# Altium schematic symbol library TI Power Management DC-DC Controller (External Switch).SchLib: 349 symbols (part 21 of 26)
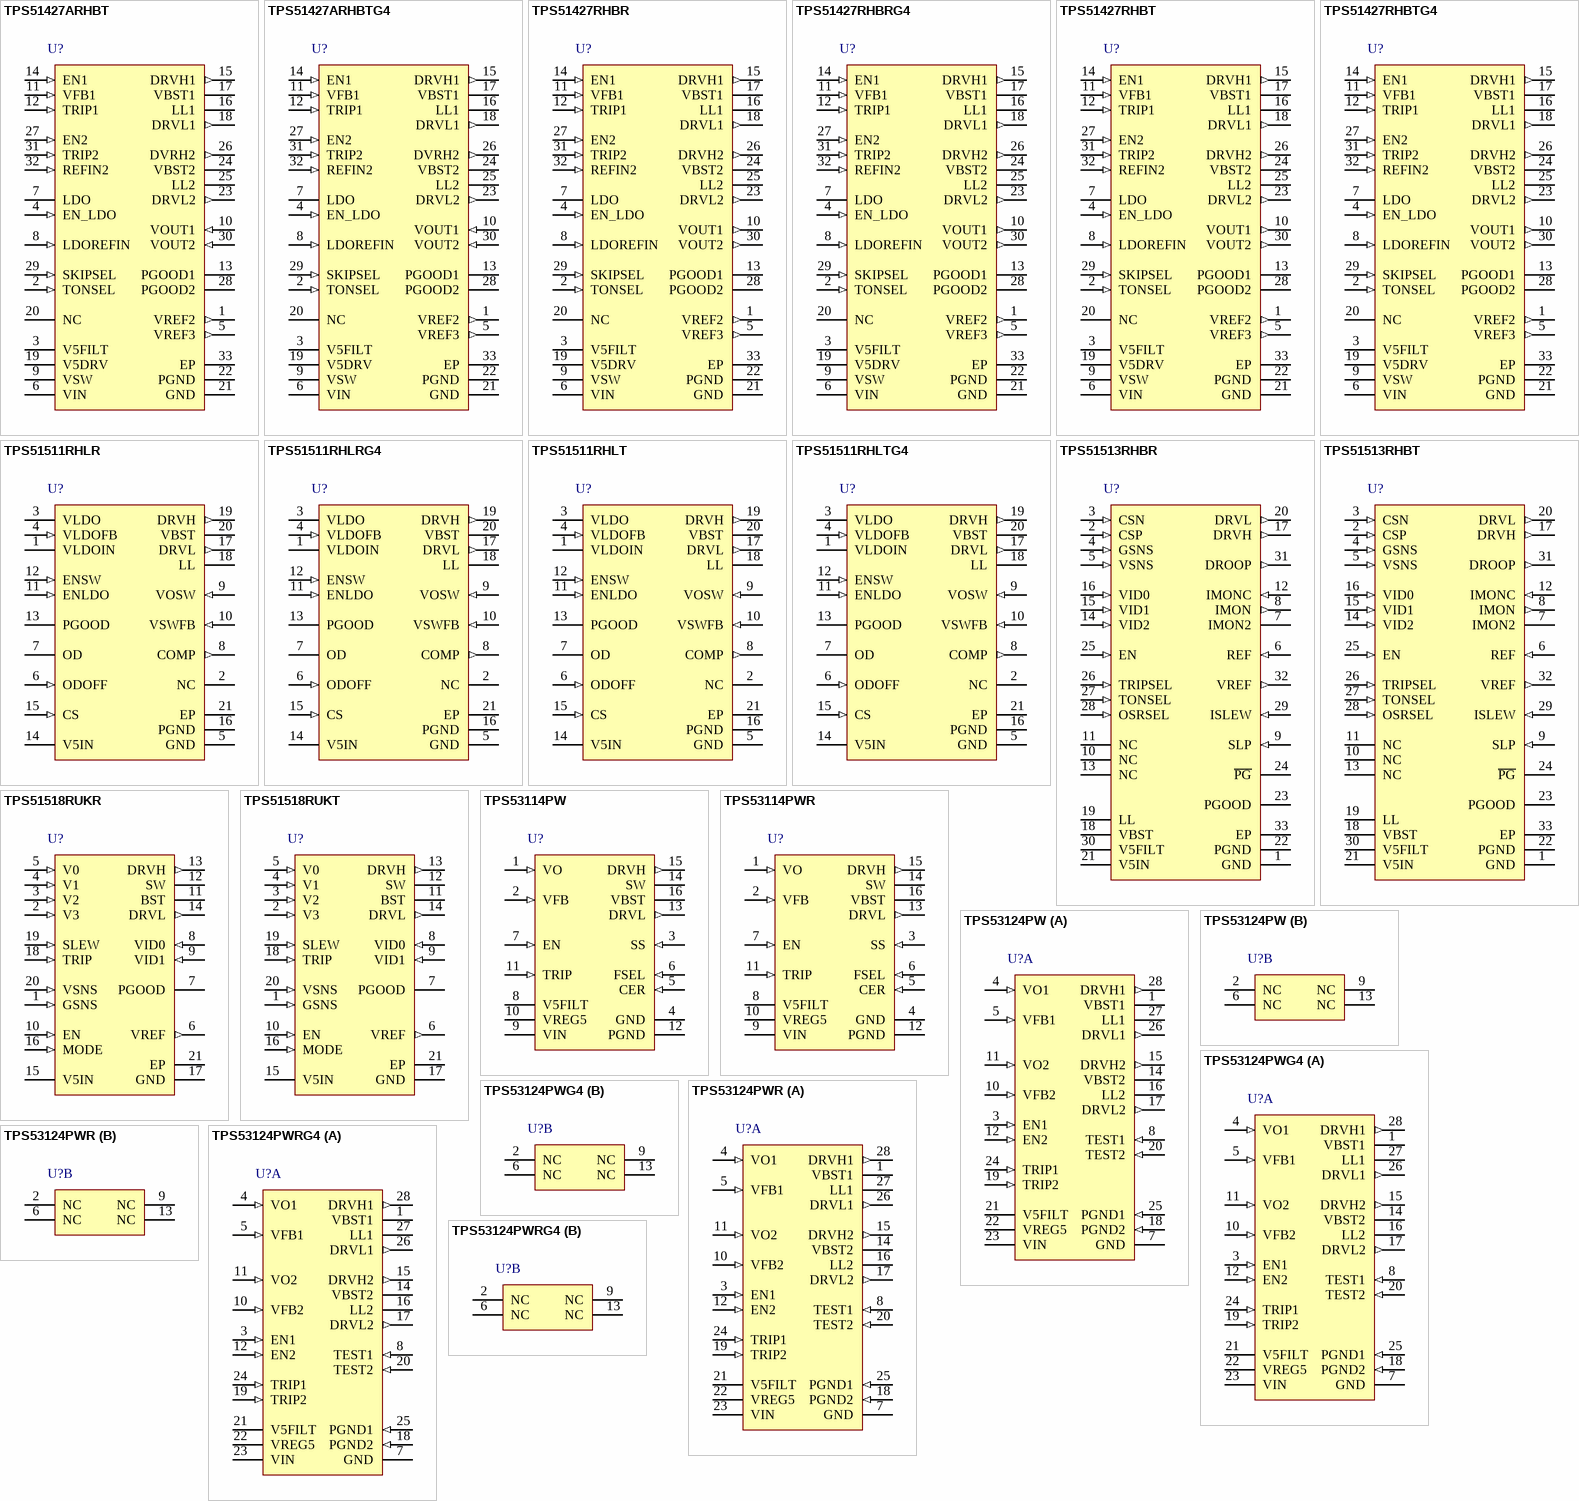
[diagram p34: symbols TPS51427ARHBT to TPS53124PWRG4]

## TPS51511RHLT
designator U?
Synchronous Switcher Controller with 2 A LDO for GPU Power, 86 % Duty Cycle, 3 to 28 V, -40 to 85 degC, 20-pin QFN (RHL), Green (RoHS & no Sb/Br); Manufacturer: Texas Instruments; PartNumber: TPS51511RHLT; Duty Cycle(Max)(%): 86; Iout(Max)(A): 10; Regulated Outputs(#): 1; SubFamily: Multiple-Output Switching Controller; Switching Frequency(Max)(kHz): 350; Synchronous Rectification: TRUE; Topology: Buck, D-CAP Mode"; Vin(Max)(V): 28; Vin(Min)(V): 3; Vout(Max)(V): 3.3; Vout(Min)(V): 0.75; DatasheetVersion: SLVS735A; PackageVersion: revJ, Dec-2011; PackageReference: RHL20-3050X2050TP; PackageDescription: 20-Leads Plastic Quad Flatpack No-Lead, 4.5 x 3.5 x 0.9 mm Body, 0.5 mm Pitch, Exposed Pad; Supplier 1: Digi-Key; Supplier Part Number 1: 296-21643-2-ND; Eco-Plan: Green (RoHS & no Sb/Br); Mounting Technology: Surface Mount; ComponentLink1Description: Datasheet; ComponentLink1URL: http://www.ti.com/general/docs/lit/getliterature.tsp?genericPartNumber=TPS51511&fileType=pdf; ComponentLink2Description: Package Specification; ComponentLink2URL: http://www.ti.com/litv/pdf/mpqf155i
footprint RHL20-3050X2050TP (QFN, 20-Leads, Body 4.5x3.5mm, Pitch 0.5mm, Thermal Pad 3.05x2.05mm, TI Recommended)
pins: 1 VLDOIN (power) "Input terminal of the LDO.", 2 NC "Pin not used. No internal connection.", 3 VLDO (power) "Output terminal of the LDO. When LDO is turned off, the output capacitor is discharged by an internal FET.", 4 VLDOFB (in) "Feedback pin of the LDO. A voltage divider sets the LDO output voltage.", 5 GND (power) "Signal ground. Connect to negative terminal of the LDO output capacitor.", 6 ODOFF (in) "A comparator input. When this pin is tied to VLDOFB, OD acts as a PGOOD signal for the LDO. When connected to external logic, OD acts like a switch. See Table 1 for detailed information.", 7 OD (oc) "The output of the multifuntional open-drain switch.", 8 COMP (out) "Output of the transconductance amplifier for phase compensation in current mode. Connect to V5IN to disable Gm amplifier and enable D-CAP mode.", 9 VOSW (in) "Switcher output voltage monitor. Input for on-time one-shot timer and advanced PGOOD masking comparator.", 10 VSWFB (in) "Feedback pin of the switcher. A voltage divider connected to this pin sets the switcher output voltage. A resistor connected between this pin and OD pin can be inserted in parallel with the low-side resistor of the voltage (See Datasheet)", 11 ENLDO (in) "LDO-enable signal input.", 12 ENSW (in) "Switcher-enable signal input.", 13 PGOOD (oc) "Power-good signal open-drain output. Pulled low when VSWFB voltage falls outside the target window comparator. The upper side of the window comparator will be masked if the VOSW volttage is lower than 1.36 V (typ.). Refer to (See Datasheet)", 14 V5IN (power) "5V Power supply input. This 5 V supplies internal control circuitry, LDO pass FET gate drive, VDRVH and VDRVL gate drivers.", 15 CS (in) "Current-sense comparator input (-) for resistor current-sense mode. If connected to 5VIN through a voltage-setting resistor, constant current sinks through this pin to set the OCL point for the RDS(ON) current-sense mode.", 16 PGND (power) "Ground for bottom MOSFET gate driver. Also current-sense comparator input (+).", 17 DRVL (out) "Rectifying (bottom) MOSFET gate-drive output.", 18 LL (power) "Switching (top) MOSFET gate driver return. Current sense comparator input (-) for RDS(ON) current-sense mode.", 19 DRVH (out) "Switching (top) MOSFET gate drive output", 20 VBST (power) "Switching (top) MOSFET driver bootstrap voltage input. Internally connected to V5IN through an PN diode.", 21 EP (power) "Exposed Thermal Pad"

## TPS51511RHLTG4
designator U?
Synchronous Switcher Controller with 2 A LDO for GPU Power, 86 % Duty Cycle, 3 to 28 V, -40 to 85 degC, 20-pin QFN (RHL), Green (RoHS & no Sb/Br); Manufacturer: Texas Instruments; PartNumber: TPS51511RHLTG4; Duty Cycle(Max)(%): 86; Iout(Max)(A): 10; Regulated Outputs(#): 1; SubFamily: Multiple-Output Switching Controller; Switching Frequency(Max)(kHz): 350; Synchronous Rectification: TRUE; Topology: Buck, D-CAP Mode"; Vin(Max)(V): 28; Vin(Min)(V): 3; Vout(Max)(V): 3.3; Vout(Min)(V): 0.75; DatasheetVersion: SLVS735A; PackageVersion: revJ, Dec-2011; PackageReference: RHL20-3050X2050TP; PackageDescription: 20-Leads Plastic Quad Flatpack No-Lead, 4.5 x 3.5 x 0.9 mm Body, 0.5 mm Pitch, Exposed Pad; Supplier 1: Digi-Key; Supplier Part Number 1: TPS51511RHLTG4-ND; Eco-Plan: Green (RoHS & no Sb/Br); Mounting Technology: Surface Mount; ComponentLink1Description: Datasheet; ComponentLink1URL: http://www.ti.com/general/docs/lit/getliterature.tsp?genericPartNumber=TPS51511&fileType=pdf; ComponentLink2Description: Package Specification; ComponentLink2URL: http://www.ti.com/litv/pdf/mpqf155i
footprint RHL20-3050X2050TP (QFN, 20-Leads, Body 4.5x3.5mm, Pitch 0.5mm, Thermal Pad 3.05x2.05mm, TI Recommended)
pins: 1 VLDOIN (power) "Input terminal of the LDO.", 2 NC "Pin not used. No internal connection.", 3 VLDO (power) "Output terminal of the LDO. When LDO is turned off, the output capacitor is discharged by an internal FET.", 4 VLDOFB (in) "Feedback pin of the LDO. A voltage divider sets the LDO output voltage.", 5 GND (power) "Signal ground. Connect to negative terminal of the LDO output capacitor.", 6 ODOFF (in) "A comparator input. When this pin is tied to VLDOFB, OD acts as a PGOOD signal for the LDO. When connected to external logic, OD acts like a switch. See Table 1 for detailed information.", 7 OD (oc) "The output of the multifuntional open-drain switch.", 8 COMP (out) "Output of the transconductance amplifier for phase compensation in current mode. Connect to V5IN to disable Gm amplifier and enable D-CAP mode.", 9 VOSW (in) "Switcher output voltage monitor. Input for on-time one-shot timer and advanced PGOOD masking comparator.", 10 VSWFB (in) "Feedback pin of the switcher. A voltage divider connected to this pin sets the switcher output voltage. A resistor connected between this pin and OD pin can be inserted in parallel with the low-side resistor of the voltage (See Datasheet)", 11 ENLDO (in) "LDO-enable signal input.", 12 ENSW (in) "Switcher-enable signal input.", 13 PGOOD (oc) "Power-good signal open-drain output. Pulled low when VSWFB voltage falls outside the target window comparator. The upper side of the window comparator will be masked if the VOSW volttage is lower than 1.36 V (typ.). Refer to (See Datasheet)", 14 V5IN (power) "5V Power supply input. This 5 V supplies internal control circuitry, LDO pass FET gate drive, VDRVH and VDRVL gate drivers.", 15 CS (in) "Current-sense comparator input (-) for resistor current-sense mode. If connected to 5VIN through a voltage-setting resistor, constant current sinks through this pin to set the OCL point for the RDS(ON) current-sense mode.", 16 PGND (power) "Ground for bottom MOSFET gate driver. Also current-sense comparator input (+).", 17 DRVL (out) "Rectifying (bottom) MOSFET gate-drive output.", 18 LL (power) "Switching (top) MOSFET gate driver return. Current sense comparator input (-) for RDS(ON) current-sense mode.", 19 DRVH (out) "Switching (top) MOSFET gate drive output", 20 VBST (power) "Switching (top) MOSFET driver bootstrap voltage input. Internally connected to V5IN through an PN diode.", 21 EP (power) "Exposed Thermal Pad"

## TPS51513RHBR
designator U?
3 to 28 V Input Synchronous Step Down Controller with D-CAP+™ Mode and Integrated Gate Driver, 90 % Duty Cycle, 3 to 28 V, -10 to 100 degC, 32-pin QFN (RHB), Green (RoHS & no Sb/Br); Manufacturer: Texas Instruments; PartNumber: TPS51513RHBR; Duty Cycle(Max)(%): 90; Iout(Max)(A): 25; Regulated Outputs(#): 1; SubFamily: Step-Down Controller; Switching Frequency(Max)(kHz): 500; Synchronous Rectification: true; Topology: Buck,D-CAP+™ Mode; Vin(Max)(V): 28; Vin(Min)(V): 3; Vout(Max)(V): 1.05; Vout(Min)(V): 0.7; DatasheetVersion: SLUS956A; PackageVersion: revD, Jun-2011; PackageReference: RHB32-3450X3450TP; PackageDescription: 32-Pin Plastic Quad Flat No-Lead, 5 x 5 mm Body, 0.5 mm Pitch, 3.45 x 3.45 mm Exposed Pad; Supplier 1: Digi-Key; Supplier Part Number 1: TPS51513RHBR-ND; Eco-Plan: Green (RoHS & no Sb/Br); Mounting Technology: Surface Mount; Code_JEDEC: MO-220; ComponentLink1Description: Datasheet; ComponentLink1URL: http://www.ti.com/general/docs/lit/getliterature.tsp?genericPartNumber=TPS51513&fileType=pdf; ComponentLink2Description: Package Specification; ComponentLink2URL: http://www.ti.com/litv/pdf/mpqf130c
footprint RHB32-3450X3450TP (QFN, 32-Leads, Body 5x5mm, Pitch 0.5mm, Thermal Pad 3.45x3.45mm, TI Recommended)
pins: 1 GND (power) "Analog / signal ground. Tie to quiet ground plane.", 2 CSP (in) "Positive current sense input. Connect to the positive node of current sense resistor or inductor DCR sense RC network.", 3 CSN (in) "Negative current sense input. Connect to the negative node of current sense resistor or inductor DCR sense RC network.", 4 GSNS (in) "Voltage sense return tied directly to GND of the microprocessor. Tie to GND with a 10-ohm resistor for feedback when mP is not present.", 5 VSNS (in) "Voltage sense line tied directly to VCORE of uP. Tie to VCORE with a 10-ohm resistor to close feedback when mP is not present.", 6 REF (in) "Termination for test circuitry. Connect to VREF.", 7 IMON2 "Connection point for IMON mirror matching resistor.", 8 IMON (out) "Current monitor output. The current out of the IMON output is proportional to the voltage between the CS inputs.", 9 SLP (in) "Sleep mode control. 1-V I/O level. 100-ns de-bounce.", 10 NC "No connection; leave floating.", 11 NC "No connection; leave floating.", 12 IMONC (in) "Clamp reference input for the IMON signal; 3.6-V maximum. Bypass to GND with a ceramic capacitor of 0.1 uF or greater.", 13 NC "No connection; leave floating.", 14 VID2 (in) "VID programming bits (MSB to LSB). 1-V I/O level. 100 ns de-bounce.", 15 VID1 (in) "VID programming bits (MSB to LSB). 1-V I/O level. 100 ns de-bounce.", 16 VID0 (in) "VID programming bits (MSB to LSB). 1-V I/O level. 100 ns de-bounce.", 17 DRVH (out) "Top N-channel FET gate drive outputs.", 18 VBST (power) "Top N-channel FET bootstrap voltage inputs.", 19 LL (power) "Top N-channel FET gate drive return. Also, input for adaptive gate drive timing.", 20 DRVL (out) "Synchronous N-channel FET gate drive outputs.", 21 V5IN (power) "5-V driver power input. Bypass to PGND with a ceramic capacitor of 2.2uF or greater.", 22 PGND (power) "Power return for the synchronous N-channel FET gate driver outputs.", 23 PGOOD (oc) "Power Good output. 6-ms nominal delay from PG. Open-drain.", 24 ~{PG} (oc) "Negative active power good output. Transitions low of approximately 50 ms after VCORE reaches the VID-defined level. Open-drain. Leave open if unused.", 25 EN (in) "Chip enable signal. 1-V I/O level; 100-ns de-bounce. Regulator enters controlled soft-stop when brought low.", 26 TRIPSEL (in) "Overcurrent protection (OCP) setting. One of eight valley-current limits is selected with the combination of the ISLEW resistor voltage (GND or VREF) and TRIPSEL = GND/VREF/3.3V/5V.", 27 TONSEL (in) "On-time selection pin. One of four operating frequencies is selected with TONSEL = GND/VREF/3.3V/5V.", 28 OSRSEL (in) "Overshoot reduction (OSR) setting. One of three OSR settings is selected with OSRSEL = GND/VREF/3.3 V. OSRSEL = 5 V disables OSR.", 29 ISLEW (in) "Precision current set-point for slew rate control. Tie the ISLEW resistor to GND to select the low range of OCP values; VREF for the higher range.", 30 V5FILT (power) "5-V power input for control circuitry. Has internal 3-ohm resistor to V5IN. Bypass to GND with a ceramic capacitor of 0.1 uF or greater.", 31 DROOP (out) "Output of gM error amplifier. A resistor to VREF sets the droop gain. A capacitor to VREF helps shape the transient response. Please see Applications Information section for configurations with no droop.", 32 VREF (out) "1.7-V, 250-mA voltage reference. Bypass to GND with a 0.22-uF capacitor.", 33 EP (power) "Thermal pad; connect to system GND plane with multiple vias."

## TPS51513RHBT
designator U?
3 to 28 V Input Synchronous Step Down Controller with D-CAP+™ Mode and Integrated Gate Driver, 90 % Duty Cycle, 3 to 28 V, -10 to 100 degC, 32-pin QFN (RHB), Green (RoHS & no Sb/Br); Manufacturer: Texas Instruments; PartNumber: TPS51513RHBT; Duty Cycle(Max)(%): 90; Iout(Max)(A): 25; Regulated Outputs(#): 1; SubFamily: Step-Down Controller; Switching Frequency(Max)(kHz): 500; Synchronous Rectification: TRUE; Topology: Buck, D-CAP+; Vin(Max)(V): 28; Vin(Min)(V): 3; Vout(Max)(V): 1.05; Vout(Min)(V): 0.7; DatasheetVersion: SLUS956A; PackageVersion: revD, Jun-2011; PackageReference: RHB32-3450X3450TP; PackageDescription: 32-Pin Plastic Quad Flat No-Lead, 5 x 5 mm Body, 0.5 mm Pitch, 3.45 x 3.45 mm Exposed Pad; Supplier 1: Digi-Key; Supplier Part Number 1: 296-25224-2-ND; Eco-Plan: Green (RoHS & no Sb/Br); Mounting Technology: Surface Mount; Code_JEDEC: MO-220; ComponentLink1Description: Datasheet; ComponentLink1URL: http://www.ti.com/general/docs/lit/getliterature.tsp?genericPartNumber=TPS51513&fileType=pdf; ComponentLink2Description: Package Specification; ComponentLink2URL: http://www.ti.com/litv/pdf/mpqf130c
footprint RHB32-3450X3450TP (QFN, 32-Leads, Body 5x5mm, Pitch 0.5mm, Thermal Pad 3.45x3.45mm, TI Recommended)
pins: 1 GND (power) "Analog / signal ground. Tie to quiet ground plane.", 2 CSP (in) "Positive current sense input. Connect to the positive node of current sense resistor or inductor DCR sense RC network.", 3 CSN (in) "Negative current sense input. Connect to the negative node of current sense resistor or inductor DCR sense RC network.", 4 GSNS (in) "Voltage sense return tied directly to GND of the microprocessor. Tie to GND with a 10-ohm resistor for feedback when mP is not present.", 5 VSNS (in) "Voltage sense line tied directly to VCORE of uP. Tie to VCORE with a 10-ohm resistor to close feedback when mP is not present.", 6 REF (in) "Termination for test circuitry. Connect to VREF.", 7 IMON2 "Connection point for IMON mirror matching resistor.", 8 IMON (out) "Current monitor output. The current out of the IMON output is proportional to the voltage between the CS inputs.", 9 SLP (in) "Sleep mode control. 1-V I/O level. 100-ns de-bounce.", 10 NC "No connection; leave floating.", 11 NC "No connection; leave floating.", 12 IMONC (in) "Clamp reference input for the IMON signal; 3.6-V maximum. Bypass to GND with a ceramic capacitor of 0.1 uF or greater.", 13 NC "No connection; leave floating.", 14 VID2 (in) "VID programming bits (MSB to LSB). 1-V I/O level. 100 ns de-bounce.", 15 VID1 (in) "VID programming bits (MSB to LSB). 1-V I/O level. 100 ns de-bounce.", 16 VID0 (in) "VID programming bits (MSB to LSB). 1-V I/O level. 100 ns de-bounce.", 17 DRVH (out) "Top N-channel FET gate drive outputs.", 18 VBST (power) "Top N-channel FET bootstrap voltage inputs.", 19 LL (power) "Top N-channel FET gate drive return. Also, input for adaptive gate drive timing.", 20 DRVL (out) "Synchronous N-channel FET gate drive outputs.", 21 V5IN (power) "5-V driver power input. Bypass to PGND with a ceramic capacitor of 2.2uF or greater.", 22 PGND (power) "Power return for the synchronous N-channel FET gate driver outputs.", 23 PGOOD (oc) "Power Good output. 6-ms nominal delay from PG. Open-drain.", 24 ~{PG} (oc) "Negative active power good output. Transitions low of approximately 50 ms after VCORE reaches the VID-defined level. Open-drain. Leave open if unused.", 25 EN (in) "Chip enable signal. 1-V I/O level; 100-ns de-bounce. Regulator enters controlled soft-stop when brought low.", 26 TRIPSEL (in) "Overcurrent protection (OCP) setting. One of eight valley-current limits is selected with the combination of the ISLEW resistor voltage (GND or VREF) and TRIPSEL = GND/VREF/3.3V/5V.", 27 TONSEL (in) "On-time selection pin. One of four operating frequencies is selected with TONSEL = GND/VREF/3.3V/5V.", 28 OSRSEL (in) "Overshoot reduction (OSR) setting. One of three OSR settings is selected with OSRSEL = GND/VREF/3.3 V. OSRSEL = 5 V disables OSR.", 29 ISLEW (in) "Precision current set-point for slew rate control. Tie the ISLEW resistor to GND to select the low range of OCP values; VREF for the higher range.", 30 V5FILT (power) "5-V power input for control circuitry. Has internal 3-ohm resistor to V5IN. Bypass to GND with a ceramic capacitor of 0.1 uF or greater.", 31 DROOP (out) "Output of gM error amplifier. A resistor to VREF sets the droop gain. A capacitor to VREF helps shape the transient response. Please see Applications Information section for configurations with no droop.", 32 VREF (out) "1.7-V, 250-mA voltage reference. Bypass to GND with a 0.22-uF capacitor.", 33 EP (power) "Thermal pad; connect to system GND plane with multiple vias."

## TPS51518RUKR
designator U?
Single Phase DCAP and D-CAP2 Controller with 2-bit Flexible VID Controller, 89 % Duty Cycle, 3 to 28 V, -10 to 105 degC, 20-pin WQFN (RUK), Green (RoHS & no Sb/Br); Manufacturer: Texas Instruments; PartNumber: TPS51518RUKR; Duty Cycle(Max)(%): 89; Iout(Max)(A): 20; Regulated Outputs(#): 1; SubFamily: Step-Down Controller; Switching Frequency(Max)(kHz): 350; Synchronous Rectification: TRUE; Topology: Buck, D-CAP+; Vin(Max)(V): 28; Vin(Min)(V): 3; Vout(Max)(V): 2; Vout(Min)(V): 0.5; DatasheetVersion: SLUSAO8; PackageVersion: revC, Jan-2012; PackageReference: RUK20-1700X1700TP; PackageDescription: 20-Pin Plastic Quad Flatpack No-Lead, 3 x 3 mm Body, 0.4 mm Pitch, 1.8 x 1.8 mm Exposed Pad; Supplier 1: Digi-Key; Supplier Part Number 1: TPS51518RUKR-ND; Eco-Plan: Green (RoHS & no Sb/Br); Mounting Technology: Surface Mount; Code_JEDEC: MO-220; ComponentLink1Description: Datasheet; ComponentLink1URL: http://www.ti.com/general/docs/lit/getliterature.tsp?genericPartNumber=TPS51518&fileType=pdf; ComponentLink2Description: Package Specification; ComponentLink2URL: http://www.ti.com/litv/pdf/mpqf220b
footprint RUK20-1700X1700TP (QFN, 20-Leads, Body 3x3mm, Pitch 0.4mm, Thermal Pad 1.8x1.8mm, TI Recommended)
pins: 1 GSNS (in) "Voltage sense return tied directly to GND sense point of the load. Tie to GND with a 10-ohm resistor to close feedback if die sensing is used. Short to GND if remote sense is not used.", 2 V3 (in) "Voltage set-point programming resistor input, corresponding to 11", 3 V2 (in) "Voltage set-point programming resistor input, corresponding to 10", 4 V1 (in) "Voltage set-point programming resistor input, corresponding to 01", 5 V0 (in) "Voltage set-point programming resistor input, corresponding to 00", 6 VREF (out) "2 V, 300-µA voltage reference. Bypass to GND with a 1-µF ceramic capacitor.", 7 PGOOD (oc) "PGOOD output. Connect pull-up resistor", 8 VID0 (in) "Logic input for set-point voltage selector. Use in conjunction with VID1 pin to select among four set-point reference voltages. Support 1-V and 3.3-V logic.", 9 VID1 (in) "Logic input for set-point voltage selector. Use in conjunction with VID0 pin to select among four set-point reference voltages. Support 1-V and 3.3-V logic.", 10 EN (in) "Enable input for the device. Support 3.3-V logic", 11 BST (power) "Supply input for high-side MOSFET driver (bootstrap terminal). Connect a capacitor from this pin to the SW pin. Internally connected to V5IN via the bootstrap MOSFET switch.", 12 SW (power) "High-side MOSFET gate driver return. The RDS(on) current sensing input (-).", 13 DRVH (out) "High-side MOSFET gate driver output.", 14 DRVL (out) "Synchronous low-side MOSFET gate driver output.", 15 V5IN (power) "5-V power supply input for internal circuits and MOSFET gate drivers", 16 MODE (in) "See Table 2.", 17 GND (power) "Combined AGND and PGND point. The positive on-resistance current sensing input.", 18 TRIP (in) "Connect resistor to GND to set OCL at VTRIP/8. Output 10 µA current at room temperature, TC =4700ppm/degreesC.", 19 SLEW (in) "Program the startup using 10 µA and voltage transition time using 50 µA from an external capacitor via current source.", 20 VSNS (in) "Voltage sense return tied directly to the load voltage sense point. Tie to VOUT with a 10-ohm resistor to close feedback if die sensing is used.", 21 EP (power) "Connect directly to system GND plane with multiple vias."

## TPS51518RUKT
designator U?
Single Phase DCAP and D-CAP2 Controller with 2-bit Flexible VID Controller, 89 % Duty Cycle, 3 to 28 V, -10 to 105 degC, 20-pin WQFN (RUK), Green (RoHS & no Sb/Br); Manufacturer: Texas Instruments; PartNumber: TPS51518RUKT; Duty Cycle(Max)(%): 89; Iout(Max)(A): 20; Regulated Outputs(#): 1; SubFamily: Step-Down Controller; Switching Frequency(Max)(kHz): 350; Synchronous Rectification: TRUE; Topology: Buck, D-CAP+; Vin(Max)(V): 28; Vin(Min)(V): 3; Vout(Max)(V): 2; Vout(Min)(V): 0.5; DatasheetVersion: SLUSAO8; PackageVersion: revC, Jan-2012; PackageReference: RUK20-1700X1700TP; PackageDescription: 20-Pin Plastic Quad Flatpack No-Lead, 3 x 3 mm Body, 0.4 mm Pitch, 1.8 x 1.8 mm Exposed Pad; Supplier 1: Digi-Key; Supplier Part Number 1: 296-30140-2-ND; Eco-Plan: Green (RoHS & no Sb/Br); Mounting Technology: Surface Mount; Code_JEDEC: MO-220; ComponentLink1Description: Datasheet; ComponentLink1URL: http://www.ti.com/general/docs/lit/getliterature.tsp?genericPartNumber=TPS51518&fileType=pdf; ComponentLink2Description: Package Specification; ComponentLink2URL: http://www.ti.com/litv/pdf/mpqf220b
footprint RUK20-1700X1700TP (QFN, 20-Leads, Body 3x3mm, Pitch 0.4mm, Thermal Pad 1.8x1.8mm, TI Recommended)
pins: 1 GSNS (in) "Voltage sense return tied directly to GND sense point of the load. Tie to GND with a 10-ohm resistor to close feedback if die sensing is used. Short to GND if remote sense is not used.", 2 V3 (in) "Voltage set-point programming resistor input, corresponding to 11", 3 V2 (in) "Voltage set-point programming resistor input, corresponding to 10", 4 V1 (in) "Voltage set-point programming resistor input, corresponding to 01", 5 V0 (in) "Voltage set-point programming resistor input, corresponding to 00", 6 VREF (out) "2 V, 300-µA voltage reference. Bypass to GND with a 1-µF ceramic capacitor.", 7 PGOOD (oc) "PGOOD output. Connect pull-up resistor", 8 VID0 (in) "Logic input for set-point voltage selector. Use in conjunction with VID1 pin to select among four set-point reference voltages. Support 1-V and 3.3-V logic.", 9 VID1 (in) "Logic input for set-point voltage selector. Use in conjunction with VID0 pin to select among four set-point reference voltages. Support 1-V and 3.3-V logic.", 10 EN (in) "Enable input for the device. Support 3.3-V logic", 11 BST (power) "Supply input for high-side MOSFET driver (bootstrap terminal). Connect a capacitor from this pin to the SW pin. Internally connected to V5IN via the bootstrap MOSFET switch.", 12 SW (power) "High-side MOSFET gate driver return. The RDS(on) current sensing input (-).", 13 DRVH (out) "High-side MOSFET gate driver output.", 14 DRVL (out) "Synchronous low-side MOSFET gate driver output.", 15 V5IN (power) "5-V power supply input for internal circuits and MOSFET gate drivers", 16 MODE (in) "See Table 2.", 17 GND (power) "Combined AGND and PGND point. The positive on-resistance current sensing input.", 18 TRIP (in) "Connect resistor to GND to set OCL at VTRIP/8. Output 10 µA current at room temperature, TC =4700ppm/degreesC.", 19 SLEW (in) "Program the startup using 10 µA and voltage transition time using 50 µA from an external capacitor via current source.", 20 VSNS (in) "Voltage sense return tied directly to the load voltage sense point. Tie to VOUT with a 10-ohm resistor to close feedback if die sensing is used.", 21 EP (power) "Connect directly to system GND plane with multiple vias."

## TPS53114PW
designator U?
4.5 to 24 V Input, Synchronous Step-Down Controller for Low Voltage Power Rails, 4.5 to 24 V, -40 to 85 degC, 16-pin TSSOP (PW), Green (RoHS & no Sb/Br); Manufacturer: Texas Instruments; PartNumber: TPS53114PW; Regulated Outputs(#): 1; Switching Frequency(Max)(kHz): 700; Synchronous Rectification: TRUE; Topology: Buck; Vin(Max)(V): 24; Vin(Min)(V): 4.5; Vout(Max)(V): 5.5; Vout(Min)(V): 0.76; DatasheetVersion: SLVS887B; PackageVersion: revG, Feb-2011; PackageReference: PW16; PackageDescription: 16-Pin Plastic Thin Small Outline Package 5 x 4.4 mm Body ,0.65 mm Pitch; Supplier 1: Digi-Key; Supplier Part Number 1: 296-25106-5-ND; Eco-Plan: Green (RoHS & no Sb/Br); SubFamily: Step-Down Controller; Mounting Technology: Surface Mount; Code_JEDEC: MO-153; ComponentLink1Description: Datasheet; ComponentLink1URL: http://www.ti.com/general/docs/lit/getliterature.tsp?genericPartNumber=TPS53114&fileType=pdf; ComponentLink2Description: Package Specification; ComponentLink2URL: http://www.ti.com/litv/pdf/mpds361
footprint PW16_N (TSOP, 16-Leads, Body 5x4.4mm, Pitch 0.65mm, IPC Medium Density)
footprint PW16_L (TSOP, 16-Leads, Body 5x4.4mm, Pitch 0.65mm, IPC High Density)
footprint PW16_M (TSOP, 16-Leads, Body 5x4.4mm, Pitch 0.65mm, IPC Low Density)
pins: 1 VO (in) "Output voltage input for on-time adjustment and output discharge. Connect directory to the output voltage.", 2 VFB (in) "D-CAP2 feedback input. Connect to output voltage with resistor divider.", 3 SS (in) "Soft start programming pin. Connect capacitor from SS pin to GND to program soft start time.", 4 GND (power) "Signal ground pin. Connect to PGND and system ground at a single point.", 5 CER (in) "Output capacitor select pin. Connect to GND for ceramic output capacitors. Connect to V5FILT for conductive polymer electrolyte type output capacitors (SP-CAP, POS-CAP, PXE).", 6 FSEL (in) "Switching frequency selection pin. Connect to GND for low switching frequency or connect to V5FILT for high switching frequency.", 7 EN (in) "Enable. Pull High to enable SMPS.", 8 V5FILT (power) "5-V supply input for the control circuitry except the MOSFET drivers. Bypass to GND with a minimum high-quality 1.0-uF ceramic capacitor. V5FILT is connected to VREG5 via internal 10-ohm resistor.", 9 VIN (power) "Supply Input for 5-V linear regulator. Bypass to GND with a minimum high-quality 0.1-uF ceramic capacitor.", 10 VREG5 (power) "Output of 5-V linear regulator and supply for MOSFET driver. Bypass to GND with a minimum high-quality 4.7-uF ceramic capacitor. VREG5 is connected to V5FILT via internal 10-ohm resistor.", 11 TRIP (in) "over current threshold programming pin. Connect to GND with a resister to set threshold for low-side RDS(on) current limit.", 12 PGND (power) "Power ground connection for both the low-side driver and over current comparator. Connect PGND and GND strongly together near the IC.", 13 DRVL (out) "Low-side N-Channel MOSFET gate driver output. PGND referenced driver switches between PGND(OFF) and VREG5(ON).", 14 SW (power) "Switch node connections for both the high-side driver and over current comparator.", 15 DRVH (out) "High-side N-channel MOSFET gate driver output. SW referenced driver switches between SW(OFF) and VBST(ON).", 16 VBST (power) "Supply input for high-side NFET driver. Bypass to SW with a high-quality 0.1-uF ceramic capacitor. An external schottky diode can be added from VREG5 if forward drop is critical to drive the high-side FET."

## TPS53114PWR
designator U?
4.5 to 24 V Input, Synchronous Step-Down Controller for Low Voltage Power Rails, 4.5 to 24 V, -40 to 85 degC, 16-pin TSSOP (PW), Green (RoHS & no Sb/Br); Manufacturer: Texas Instruments; PartNumber: TPS53114PWR; Regulated Outputs(#): 1; Switching Frequency(Max)(kHz): 700; Synchronous Rectification: TRUE; Topology: Buck; Vin(Max)(V): 24; Vin(Min)(V): 4.5; Vout(Max)(V): 5.5; Vout(Min)(V): 0.76; DatasheetVersion: SLVS887B; PackageVersion: revG, Feb-2011; PackageReference: PW16; PackageDescription: 16-Pin Plastic Thin Small Outline Package 5 x 4.4 mm Body ,0.65 mm Pitch; Supplier 1: Digi-Key; Supplier Part Number 1: TPS53114PWR-ND; Eco-Plan: Green (RoHS & no Sb/Br); SubFamily: Step-Down Controller; Mounting Technology: Surface Mount; Code_JEDEC: MO-153; ComponentLink1Description: Datasheet; ComponentLink1URL: http://www.ti.com/general/docs/lit/getliterature.tsp?genericPartNumber=TPS53114&fileType=pdf; ComponentLink2Description: Package Specification; ComponentLink2URL: http://www.ti.com/litv/pdf/mpds361
footprint PW16_N (TSOP, 16-Leads, Body 5x4.4mm, Pitch 0.65mm, IPC Medium Density)
footprint PW16_L (TSOP, 16-Leads, Body 5x4.4mm, Pitch 0.65mm, IPC High Density)
footprint PW16_M (TSOP, 16-Leads, Body 5x4.4mm, Pitch 0.65mm, IPC Low Density)
pins: 1 VO (in) "Output voltage input for on-time adjustment and output discharge. Connect directory to the output voltage.", 2 VFB (in) "D-CAP2 feedback input. Connect to output voltage with resistor divider.", 3 SS (in) "Soft start programming pin. Connect capacitor from SS pin to GND to program soft start time.", 4 GND (power) "Signal ground pin. Connect to PGND and system ground at a single point.", 5 CER (in) "Output capacitor select pin. Connect to GND for ceramic output capacitors. Connect to V5FILT for conductive polymer electrolyte type output capacitors (SP-CAP, POS-CAP, PXE).", 6 FSEL (in) "Switching frequency selection pin. Connect to GND for low switching frequency or connect to V5FILT for high switching frequency.", 7 EN (in) "Enable. Pull High to enable SMPS.", 8 V5FILT (power) "5-V supply input for the control circuitry except the MOSFET drivers. Bypass to GND with a minimum high-quality 1.0-uF ceramic capacitor. V5FILT is connected to VREG5 via internal 10-ohm resistor.", 9 VIN (power) "Supply Input for 5-V linear regulator. Bypass to GND with a minimum high-quality 0.1-uF ceramic capacitor.", 10 VREG5 (power) "Output of 5-V linear regulator and supply for MOSFET driver. Bypass to GND with a minimum high-quality 4.7-uF ceramic capacitor. VREG5 is connected to V5FILT via internal 10-ohm resistor.", 11 TRIP (in) "over current threshold programming pin. Connect to GND with a resister to set threshold for low-side RDS(on) current limit.", 12 PGND (power) "Power ground connection for both the low-side driver and over current comparator. Connect PGND and GND strongly together near the IC.", 13 DRVL (out) "Low-side N-Channel MOSFET gate driver output. PGND referenced driver switches between PGND(OFF) and VREG5(ON).", 14 SW (power) "Switch node connections for both the high-side driver and over current comparator.", 15 DRVH (out) "High-side N-channel MOSFET gate driver output. SW referenced driver switches between SW(OFF) and VBST(ON).", 16 VBST (power) "Supply input for high-side NFET driver. Bypass to SW with a high-quality 0.1-uF ceramic capacitor. An external schottky diode can be added from VREG5 if forward drop is critical to drive the high-side FET."

## TPS53124PW
designator U?
Dual Synchronous Step-Down Controller for Low Voltage Power Rails, 380 kHz Frequency, 89 % Duty Cycle, 4.5 to 24 V, -40 to 85 degC, 28-pin TSSOP (PW), Green (RoHS & no Sb/Br); Manufacturer: Texas Instruments; PartNumber: TPS53124PW; Duty Cycle(Max)(%): 89; Iout(Max)(A): 15; Regulated Outputs(#): 2; SubFamily: Multiple-Output Switching Controller; Switching Frequency(Max)(kHz): 380; Synchronous Rectification: TRUE; Topology: Buck, D-CAP Mode"; Vin(Max)(V): 24; Vin(Min)(V): 4.5; Vout(Max)(V): 5.5; Vout(Min)(V): 0.76; DatasheetVersion: SLUS825B; PackageVersion: revG, Feb-2011; PackageReference: PW28; PackageDescription: 28-Pin Plastic Thin Small Outline Package 9.7 x 4.4 mm Body ,0.65 mm Pitch; Supplier 1: Digi-Key; Supplier Part Number 1: TPS53124PW-ND; Eco-Plan: Green (RoHS & no Sb/Br); Iout2(A): 15; Vout2(Max)(V): 5.5; Vout2(Min)(V): 0.76; Mounting Technology: Surface Mount; Code_JEDEC: MO-153; ComponentLink1Description: Datasheet; ComponentLink1URL: http://www.ti.com/general/docs/lit/getliterature.tsp?genericPartNumber=TPS53124&fileType=pdf; ComponentLink2Description: Package Specification; ComponentLink2URL: http://www.ti.com/litv/pdf/mpds364
footprint PW28_N (TSOP, 28-Leads, Body 9.7x4.4mm, Pitch 0.65mm, IPC Medium Density)
footprint PW28_L (TSOP, 28-Leads, Body 9.7x4.4mm, Pitch 0.65mm, IPC High Density)
footprint PW28_M (TSOP, 28-Leads, Body 9.7x4.4mm, Pitch 0.65mm, IPC Low Density)
part A pins: 1 VBST1 (power) "Supply input for high-side NFET driver (boost terminal). Connect capacitor from this pin to respective LL terminals. An internal PN diode is connected between VREG5 to each of these pins. User can add external schottky diode (See Datasheet)", 3 EN1 (in) "Channel 1 and Channel 2 enable pins.", 4 VO1 (in) "Output connections to SMPS. These terminals serve ON-time adjustment,output discharge.", 5 VFB1 (in) "SMPS feedback inputs. Connect with feedback resistor divider.", 7 GND (power) "Signal ground pin.", 8 TEST1 (in) "Used for test only. Pin should be connected to GND", 10 VFB2 (in) "SMPS feedback inputs. Connect with feedback resistor divider", 11 VO2 (in) "Output connections to SMPS. These terminals serve ON-time adjustment,output discharge.", 12 EN2 (in) "Channel 1 and Channel 2 enable pins.", 14 VBST2 (power) "Supply input for high-side NFET driver (boost terminal). Connect capacitor from this pin to respective LL terminals. An internal PN diode is connected between VREG5 to each of these pins. User can add external schottky diode (See Datasheet)", 15 DRVH2 (out) "High-side NFET driver outputs. LL referenced floating drivers. The gate drive voltage is defined by the voltage across VBST to LL node flying capacitor.", 16 LL2 (power) "Switch-node connections for high-side drivers. Also serve as input to current comparators.", 17 DRVL2 (out) "Synchronous NFET driver outputs. PGND referenced drivers. The gate drive voltage is defined by VREG5 voltage.", 18 PGND2 (in) "Ground returns for DRVL1 and DRVL2. Also serve as input of current comparators. Connect PGND1, PGND2 and GND strongly together near the device.", 19 TRIP2 (in) "Over-current trip point set input. Connect resistor from this pin to GND to set threshold for synchronous R DS(on) sense. Voltage across this pin and GND is compared to voltage across PGND and LL at over current comparator.", 20 TEST2 (in) "Used for test only. Pin should be connected to GND", 21 V5FILT (power) "5-V supply input for the entire control circuit except the NFET drivers. Connect capacitor (typical 1 µ F) from GND to V5FILT. V5FILT is connected to VREG5 via internal resistor.", 22 VREG5 (power) "5-V power supply output. VREG5 is connected to V5FILT via internal resistor.", 23 VIN (power) "Supply Input for 5-V linear regulator.", 24 TRIP1 (in) "Over-current trip point set input. Connect resistor from this pin to GND to set threshold for synchronous R DS(on) sense. Voltage across this pin and GND is compared to voltage across PGND and LL at over current comparator.", 25 PGND1 (in) "Ground returns for DRVL1 and DRVL2. Also serve as input of current comparators. Connect PGND1, PGND2 and GND strongly together near the device.", 26 DRVL1 (out) "Synchronous NFET driver outputs. PGND referenced drivers. The gate drive voltage is defined by VREG5 voltage.", 27 LL1 (power) "Switch-node connections for high-side drivers. Also serve as input to current comparators.", 28 DRVH1 (out) "High-side NFET driver outputs. LL referenced floating drivers. The gate drive voltage is defined by the voltage across VBST to LL node flying capacitor."
part B pins: 2 NC "Not Connect", 6 NC "Not Connect", 9 NC "Not Connect", 13 NC "Not Connect"

## TPS53124PWG4
designator U?
Dual Synchronous Step-Down Controller for Low Voltage Power Rails, 380 kHz Frequency, 89 % Duty Cycle, 4.5 to 24 V, -40 to 85 degC, 28-pin TSSOP (PW), Green (RoHS & no Sb/Br); Manufacturer: Texas Instruments; PartNumber: TPS53124PWG4; Duty Cycle(Max)(%): 89; Iout(Max)(A): 15; Regulated Outputs(#): 2; SubFamily: Multiple-Output Switching Controller; Switching Frequency(Max)(kHz): 380; Synchronous Rectification: TRUE; Topology: Buck, D-CAP Mode"; Vin(Max)(V): 24; Vin(Min)(V): 4.5; Vout(Max)(V): 5.5; Vout(Min)(V): 0.76; DatasheetVersion: SLUS825B; PackageVersion: revG, Feb-2011; PackageReference: PW28; PackageDescription: 28-Pin Plastic Thin Small Outline Package 9.7 x 4.4 mm Body ,0.65 mm Pitch; Supplier 1: Digi-Key; Supplier Part Number 1: TPS53124PWG4-ND; Eco-Plan: Green (RoHS & no Sb/Br); Iout2(A): 15; Vout2(Max)(V): 5.5; Vout2(Min)(V): 0.76; Mounting Technology: Surface Mount; Code_JEDEC: MO-153; ComponentLink1Description: Datasheet; ComponentLink1URL: http://www.ti.com/general/docs/lit/getliterature.tsp?genericPartNumber=TPS53124&fileType=pdf; ComponentLink2Description: Package Specification; ComponentLink2URL: http://www.ti.com/litv/pdf/mpds364
footprint PW28_N (TSOP, 28-Leads, Body 9.7x4.4mm, Pitch 0.65mm, IPC Medium Density)
footprint PW28_L (TSOP, 28-Leads, Body 9.7x4.4mm, Pitch 0.65mm, IPC High Density)
footprint PW28_M (TSOP, 28-Leads, Body 9.7x4.4mm, Pitch 0.65mm, IPC Low Density)
part A pins: 1 VBST1 (power) "Supply input for high-side NFET driver (boost terminal). Connect capacitor from this pin to respective LL terminals. An internal PN diode is connected between VREG5 to each of these pins. User can add external schottky diode (See Datasheet)", 3 EN1 (in) "Channel 1 and Channel 2 enable pins.", 4 VO1 (in) "Output connections to SMPS. These terminals serve ON-time adjustment,output discharge.", 5 VFB1 (in) "SMPS feedback inputs. Connect with feedback resistor divider.", 7 GND (power) "Signal ground pin.", 8 TEST1 (in) "Used for test only. Pin should be connected to GND", 10 VFB2 (in) "SMPS feedback inputs. Connect with feedback resistor divider", 11 VO2 (in) "Output connections to SMPS. These terminals serve ON-time adjustment,output discharge.", 12 EN2 (in) "Channel 1 and Channel 2 enable pins.", 14 VBST2 (power) "Supply input for high-side NFET driver (boost terminal). Connect capacitor from this pin to respective LL terminals. An internal PN diode is connected between VREG5 to each of these pins. User can add external schottky diode (See Datasheet)", 15 DRVH2 (out) "High-side NFET driver outputs. LL referenced floating drivers. The gate drive voltage is defined by the voltage across VBST to LL node flying capacitor.", 16 LL2 (power) "Switch-node connections for high-side drivers. Also serve as input to current comparators.", 17 DRVL2 (out) "Synchronous NFET driver outputs. PGND referenced drivers. The gate drive voltage is defined by VREG5 voltage.", 18 PGND2 (in) "Ground returns for DRVL1 and DRVL2. Also serve as input of current comparators. Connect PGND1, PGND2 and GND strongly together near the device.", 19 TRIP2 (in) "Over-current trip point set input. Connect resistor from this pin to GND to set threshold for synchronous R DS(on) sense. Voltage across this pin and GND is compared to voltage across PGND and LL at over current comparator.", 20 TEST2 (in) "Used for test only. Pin should be connected to GND", 21 V5FILT (power) "5-V supply input for the entire control circuit except the NFET drivers. Connect capacitor (typical 1 µ F) from GND to V5FILT. V5FILT is connected to VREG5 via internal resistor.", 22 VREG5 (power) "5-V power supply output. VREG5 is connected to V5FILT via internal resistor.", 23 VIN (power) "Supply Input for 5-V linear regulator.", 24 TRIP1 (in) "Over-current trip point set input. Connect resistor from this pin to GND to set threshold for synchronous R DS(on) sense. Voltage across this pin and GND is compared to voltage across PGND and LL at over current comparator.", 25 PGND1 (in) "Ground returns for DRVL1 and DRVL2. Also serve as input of current comparators. Connect PGND1, PGND2 and GND strongly together near the device.", 26 DRVL1 (out) "Synchronous NFET driver outputs. PGND referenced drivers. The gate drive voltage is defined by VREG5 voltage.", 27 LL1 (power) "Switch-node connections for high-side drivers. Also serve as input to current comparators.", 28 DRVH1 (out) "High-side NFET driver outputs. LL referenced floating drivers. The gate drive voltage is defined by the voltage across VBST to LL node flying capacitor."
part B pins: 2 NC "Not Connect", 6 NC "Not Connect", 9 NC "Not Connect", 13 NC "Not Connect"

## TPS53124PWR
designator U?
Dual Synchronous Step-Down Controller for Low Voltage Power Rails, 380 kHz Frequency, 89 % Duty Cycle, 4.5 to 24 V, -40 to 85 degC, 28-pin TSSOP (PW), Green (RoHS & no Sb/Br); Manufacturer: Texas Instruments; PartNumber: TPS53124PWR; Duty Cycle(Max)(%): 89; Iout(Max)(A): 15; Regulated Outputs(#): 2; SubFamily: Multiple-Output Switching Controller; Switching Frequency(Max)(kHz): 380; Synchronous Rectification: TRUE; Topology: Buck, D-CAP Mode"; Vin(Max)(V): 24; Vin(Min)(V): 4.5; Vout(Max)(V): 5.5; Vout(Min)(V): 0.76; DatasheetVersion: SLUS825B; PackageVersion: revG, Feb-2011; PackageReference: PW28; PackageDescription: 28-Pin Plastic Thin Small Outline Package 9.7 x 4.4 mm Body ,0.65 mm Pitch; Supplier 1: Digi-Key; Supplier Part Number 1: TPS53124PWR-ND; Eco-Plan: Green (RoHS & no Sb/Br); Iout2(A): 15; Vout2(Max)(V): 5.5; Vout2(Min)(V): 0.76; Mounting Technology: Surface Mount; Code_JEDEC: MO-153; ComponentLink1Description: Datasheet; ComponentLink1URL: http://www.ti.com/general/docs/lit/getliterature.tsp?genericPartNumber=TPS53124&fileType=pdf; ComponentLink2Description: Package Specification; ComponentLink2URL: http://www.ti.com/litv/pdf/mpds364
footprint PW28_N (TSOP, 28-Leads, Body 9.7x4.4mm, Pitch 0.65mm, IPC Medium Density)
footprint PW28_L (TSOP, 28-Leads, Body 9.7x4.4mm, Pitch 0.65mm, IPC High Density)
footprint PW28_M (TSOP, 28-Leads, Body 9.7x4.4mm, Pitch 0.65mm, IPC Low Density)
part A pins: 1 VBST1 (power) "Supply input for high-side NFET driver (boost terminal). Connect capacitor from this pin to respective LL terminals. An internal PN diode is connected between VREG5 to each of these pins. User can add external schottky diode (See Datasheet)", 3 EN1 (in) "Channel 1 and Channel 2 enable pins.", 4 VO1 (in) "Output connections to SMPS. These terminals serve ON-time adjustment,output discharge.", 5 VFB1 (in) "SMPS feedback inputs. Connect with feedback resistor divider.", 7 GND (power) "Signal ground pin.", 8 TEST1 (in) "Used for test only. Pin should be connected to GND", 10 VFB2 (in) "SMPS feedback inputs. Connect with feedback resistor divider", 11 VO2 (in) "Output connections to SMPS. These terminals serve ON-time adjustment,output discharge.", 12 EN2 (in) "Channel 1 and Channel 2 enable pins.", 14 VBST2 (power) "Supply input for high-side NFET driver (boost terminal). Connect capacitor from this pin to respective LL terminals. An internal PN diode is connected between VREG5 to each of these pins. User can add external schottky diode (See Datasheet)", 15 DRVH2 (out) "High-side NFET driver outputs. LL referenced floating drivers. The gate drive voltage is defined by the voltage across VBST to LL node flying capacitor.", 16 LL2 (power) "Switch-node connections for high-side drivers. Also serve as input to current comparators.", 17 DRVL2 (out) "Synchronous NFET driver outputs. PGND referenced drivers. The gate drive voltage is defined by VREG5 voltage.", 18 PGND2 (in) "Ground returns for DRVL1 and DRVL2. Also serve as input of current comparators. Connect PGND1, PGND2 and GND strongly together near the device.", 19 TRIP2 (in) "Over-current trip point set input. Connect resistor from this pin to GND to set threshold for synchronous R DS(on) sense. Voltage across this pin and GND is compared to voltage across PGND and LL at over current comparator.", 20 TEST2 (in) "Used for test only. Pin should be connected to GND", 21 V5FILT (power) "5-V supply input for the entire control circuit except the NFET drivers. Connect capacitor (typical 1 µ F) from GND to V5FILT. V5FILT is connected to VREG5 via internal resistor.", 22 VREG5 (power) "5-V power supply output. VREG5 is connected to V5FILT via internal resistor.", 23 VIN (power) "Supply Input for 5-V linear regulator.", 24 TRIP1 (in) "Over-current trip point set input. Connect resistor from this pin to GND to set threshold for synchronous R DS(on) sense. Voltage across this pin and GND is compared to voltage across PGND and LL at over current comparator.", 25 PGND1 (in) "Ground returns for DRVL1 and DRVL2. Also serve as input of current comparators. Connect PGND1, PGND2 and GND strongly together near the device.", 26 DRVL1 (out) "Synchronous NFET driver outputs. PGND referenced drivers. The gate drive voltage is defined by VREG5 voltage.", 27 LL1 (power) "Switch-node connections for high-side drivers. Also serve as input to current comparators.", 28 DRVH1 (out) "High-side NFET driver outputs. LL referenced floating drivers. The gate drive voltage is defined by the voltage across VBST to LL node flying capacitor."
part B pins: 2 NC "Not Connect", 6 NC "Not Connect", 9 NC "Not Connect", 13 NC "Not Connect"

## TPS53124PWRG4
designator U?
Dual Synchronous Step-Down Controller for Low Voltage Power Rails, 380 kHz Frequency, 89 % Duty Cycle, 4.5 to 24 V, -40 to 85 degC, 28-pin TSSOP (PW), Green (RoHS & no Sb/Br); Manufacturer: Texas Instruments; PartNumber: TPS53124PWRG4; Duty Cycle(Max)(%): 89; Iout(Max)(A): 15; Regulated Outputs(#): 2; SubFamily: Multiple-Output Switching Controller; Switching Frequency(Max)(kHz): 380; Synchronous Rectification: TRUE; Topology: Buck, D-CAP Mode"; Vin(Max)(V): 24; Vin(Min)(V): 4.5; Vout(Max)(V): 5.5; Vout(Min)(V): 0.76; DatasheetVersion: SLUS825B; PackageVersion: revG, Feb-2011; PackageReference: PW28; PackageDescription: 28-Pin Plastic Thin Small Outline Package 9.7 x 4.4 mm Body ,0.65 mm Pitch; Supplier 1: Digi-Key; Supplier Part Number 1: TPS53124PWRG4-ND; Eco-Plan: Green (RoHS & no Sb/Br); Iout2(A): 15; Vout2(Max)(V): 5.5; Vout2(Min)(V): 0.76; Mounting Technology: Surface Mount; Code_JEDEC: MO-153; ComponentLink1Description: Datasheet; ComponentLink1URL: http://www.ti.com/general/docs/lit/getliterature.tsp?genericPartNumber=TPS53124&fileType=pdf; ComponentLink2Description: Package Specification; ComponentLink2URL: http://www.ti.com/litv/pdf/mpds364
footprint PW28_N (TSOP, 28-Leads, Body 9.7x4.4mm, Pitch 0.65mm, IPC Medium Density)
footprint PW28_L (TSOP, 28-Leads, Body 9.7x4.4mm, Pitch 0.65mm, IPC High Density)
footprint PW28_M (TSOP, 28-Leads, Body 9.7x4.4mm, Pitch 0.65mm, IPC Low Density)
part A pins: 1 VBST1 (power) "Supply input for high-side NFET driver (boost terminal). Connect capacitor from this pin to respective LL terminals. An internal PN diode is connected between VREG5 to each of these pins. User can add external schottky diode (See Datasheet)", 3 EN1 (in) "Channel 1 and Channel 2 enable pins.", 4 VO1 (in) "Output connections to SMPS. These terminals serve ON-time adjustment,output discharge.", 5 VFB1 (in) "SMPS feedback inputs. Connect with feedback resistor divider.", 7 GND (power) "Signal ground pin.", 8 TEST1 (in) "Used for test only. Pin should be connected to GND", 10 VFB2 (in) "SMPS feedback inputs. Connect with feedback resistor divider", 11 VO2 (in) "Output connections to SMPS. These terminals serve ON-time adjustment,output discharge.", 12 EN2 (in) "Channel 1 and Channel 2 enable pins.", 14 VBST2 (power) "Supply input for high-side NFET driver (boost terminal). Connect capacitor from this pin to respective LL terminals. An internal PN diode is connected between VREG5 to each of these pins. User can add external schottky diode (See Datasheet)", 15 DRVH2 (out) "High-side NFET driver outputs. LL referenced floating drivers. The gate drive voltage is defined by the voltage across VBST to LL node flying capacitor.", 16 LL2 (power) "Switch-node connections for high-side drivers. Also serve as input to current comparators.", 17 DRVL2 (out) "Synchronous NFET driver outputs. PGND referenced drivers. The gate drive voltage is defined by VREG5 voltage.", 18 PGND2 (in) "Ground returns for DRVL1 and DRVL2. Also serve as input of current comparators. Connect PGND1, PGND2 and GND strongly together near the device.", 19 TRIP2 (in) "Over-current trip point set input. Connect resistor from this pin to GND to set threshold for synchronous R DS(on) sense. Voltage across this pin and GND is compared to voltage across PGND and LL at over current comparator.", 20 TEST2 (in) "Used for test only. Pin should be connected to GND", 21 V5FILT (power) "5-V supply input for the entire control circuit except the NFET drivers. Connect capacitor (typical 1 µ F) from GND to V5FILT. V5FILT is connected to VREG5 via internal resistor.", 22 VREG5 (power) "5-V power supply output. VREG5 is connected to V5FILT via internal resistor.", 23 VIN (power) "Supply Input for 5-V linear regulator.", 24 TRIP1 (in) "Over-current trip point set input. Connect resistor from this pin to GND to set threshold for synchronous R DS(on) sense. Voltage across this pin and GND is compared to voltage across PGND and LL at over current comparator.", 25 PGND1 (in) "Ground returns for DRVL1 and DRVL2. Also serve as input of current comparators. Connect PGND1, PGND2 and GND strongly together near the device.", 26 DRVL1 (out) "Synchronous NFET driver outputs. PGND referenced drivers. The gate drive voltage is defined by VREG5 voltage.", 27 LL1 (power) "Switch-node connections for high-side drivers. Also serve as input to current comparators.", 28 DRVH1 (out) "High-side NFET driver outputs. LL referenced floating drivers. The gate drive voltage is defined by the voltage across VBST to LL node flying capacitor."
part B pins: 2 NC "Not Connect", 6 NC "Not Connect", 9 NC "Not Connect", 13 NC "Not Connect"

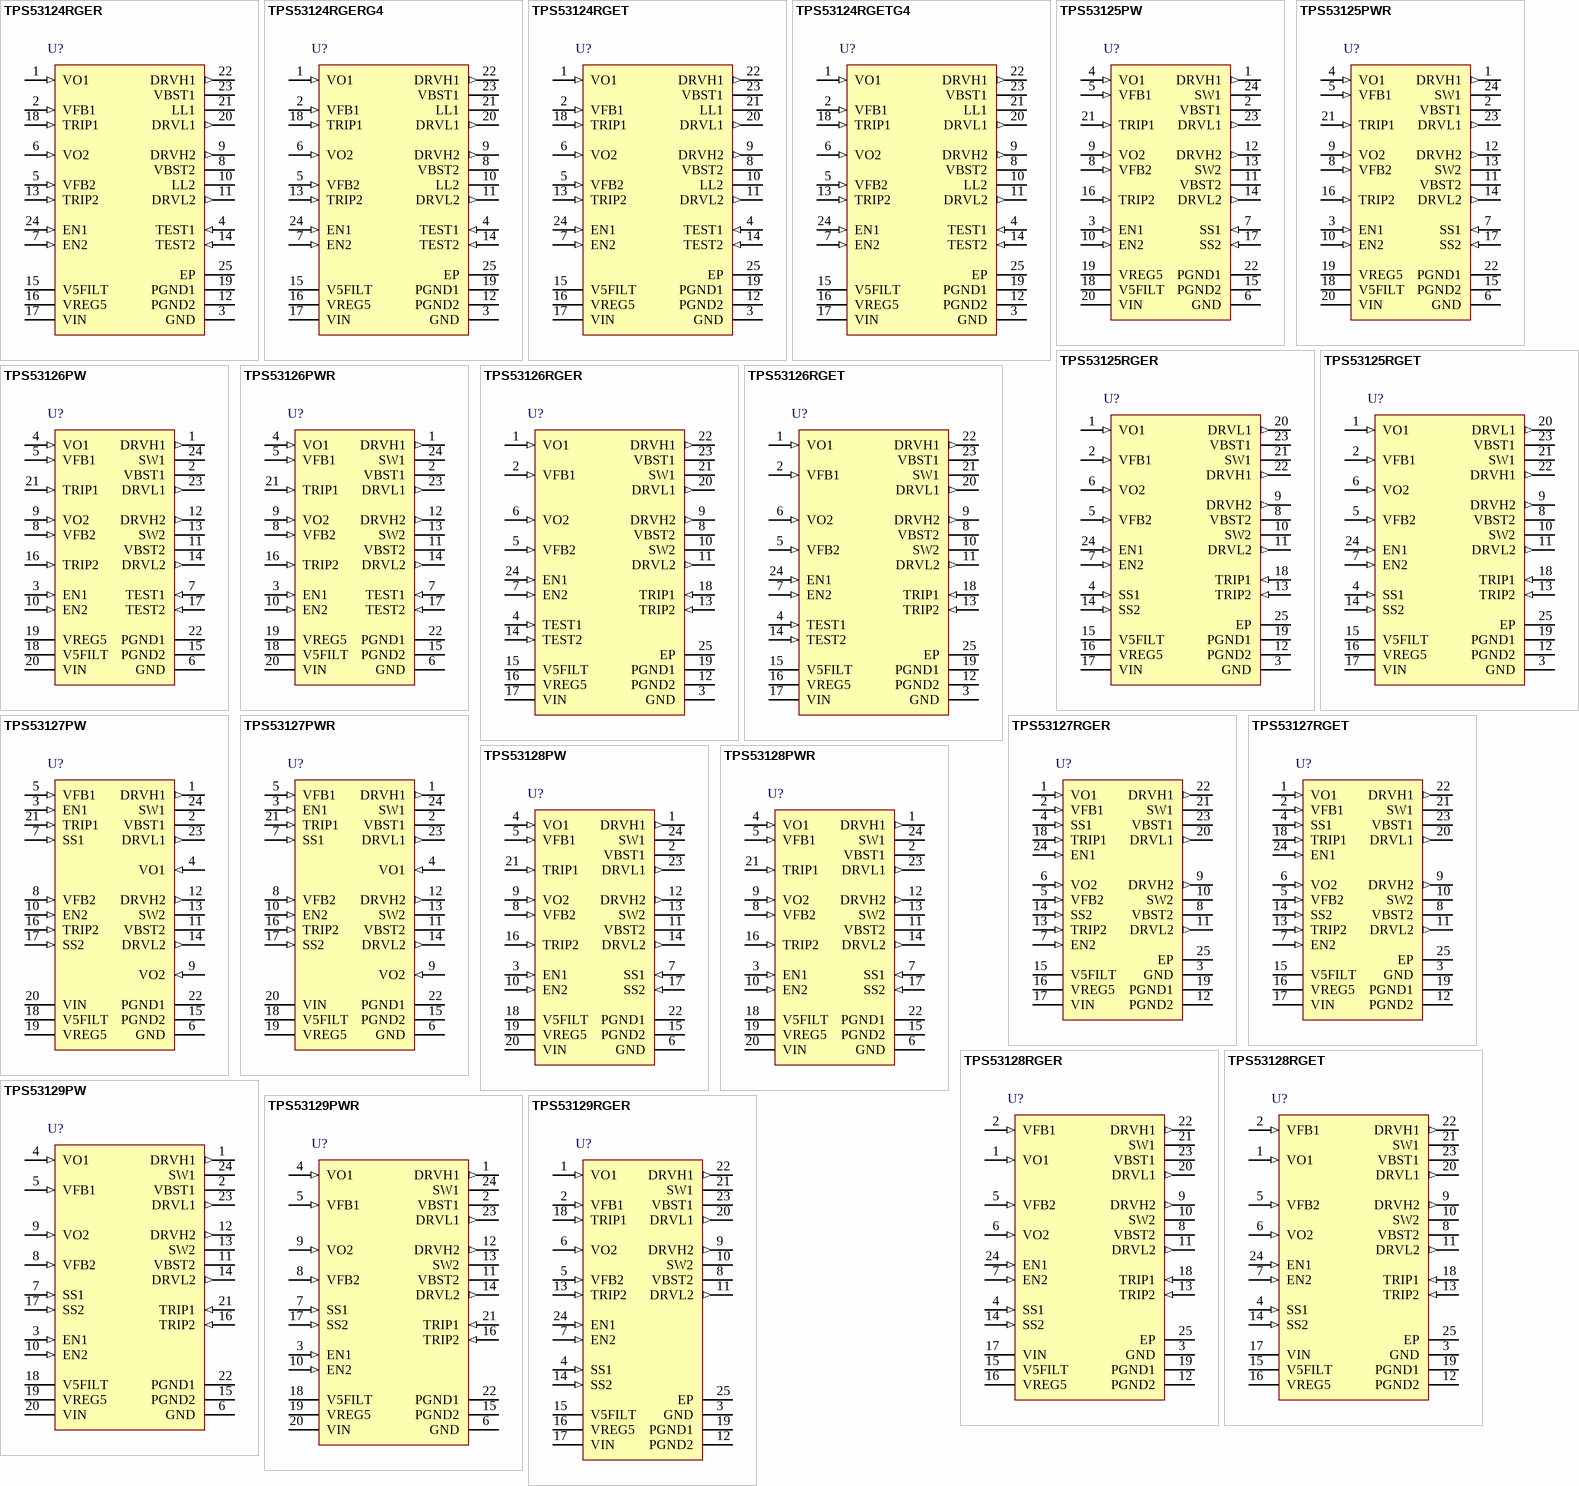
[diagram p12: symbols TPS53124RGER to TPS53129RGER]